# EAGLE library part M6_RECEPTACLE (library FSAE Electric (Alexander Ray's conflicted copy 2016-04-02))
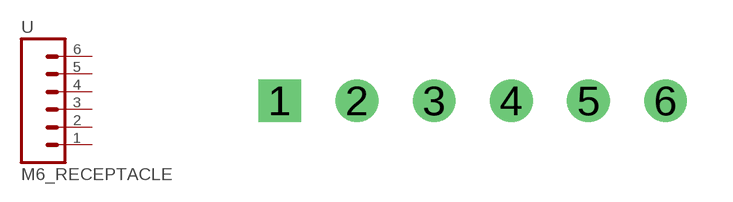
[diagram p79: symbol with the pads of 6X.1; footprint 6X.1]

Designator prefix -

## M6_RECEPTACLE (PARTNO: A32907-ND)  [6X.1]
1  1  pas
2  2  pas
3  3  pas
4  4  pas
5  5  pas
6  6  pas

## Footprint 6X.1 (pad centres in mm)
drill 0.9 square: 1 0,0
drill 0.9: 2 2.54,0; 3 5.08,0; 4 7.62,0; 5 10.16,0; 6 12.7,0